# Altium footprint library TSM-110-01-L-SV.PCBLIB: 1 footprints
Each footprint in its own frame and in the unit in brackets; x right, y up, seen from the top. Pads: shape width x height; smd on the part's side, far side on the other; paste and mask are expansions set on the pad; w line width, h text height; cw(c..) or ccw(c..) is an arc to the next point about the centre after c.
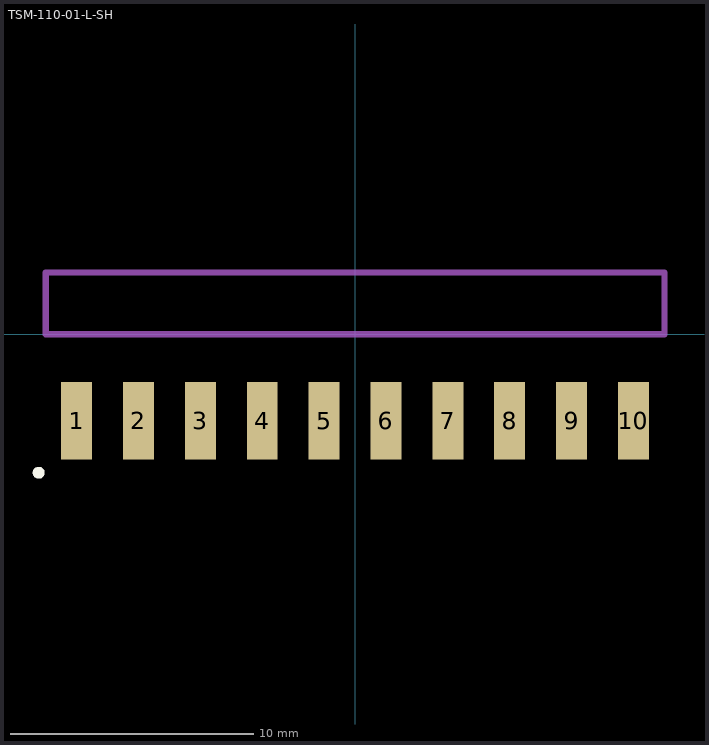
[diagram p0: the footprint, top view; thin cyan lines are the x and y axes]

## TSM-110-01-L-SH [mil]
pads (10):
  rect 50x125.2 smd: 1(-450,-139.76) 2(-350,-139.76) 3(-250,-139.76) 4(-150,-139.76) 5(-50,-139.76) 6(50,-139.76) 7(150,-139.76) 8(250,-139.76) 9(350,-139.76) 10(450,-139.76)
Top Overlay:
  circle w10: c-511.29,-223.75 r4.63
Mechanical 8:
  lines w10: -500,0 -500,100 500,100 500,0 -500,0
Mechanical 22:
  lines w10: -500,0 500,0 500,100 -500,100 -500,0